# Altium schematic symbol library SCH - INTERFACE - LATTICE SIL9022A QFN-72.SCHLIB: 1 symbol
Pins are listed as number, name and electrical type; pins without a type are passive.

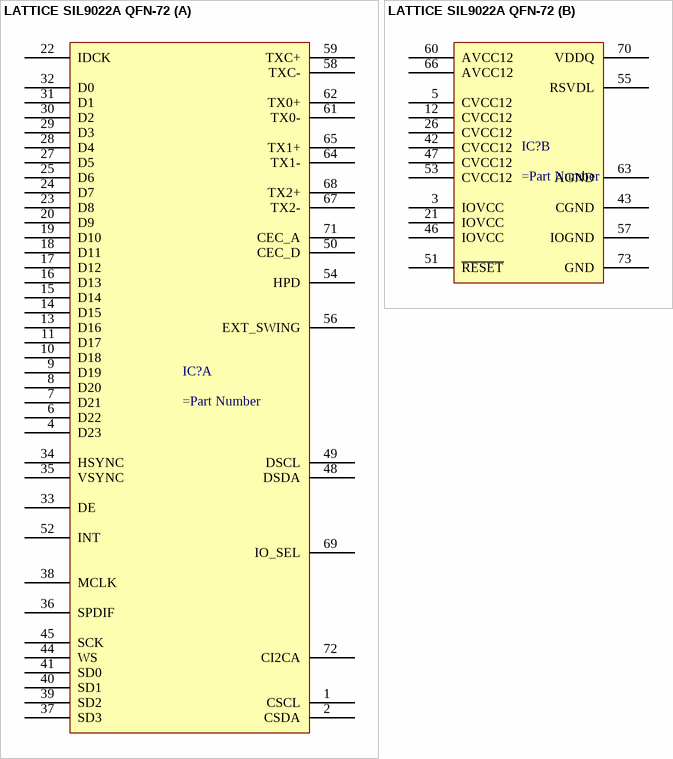
[diagram p0: symbol LATTICE SIL9022A QFN-72]

## LATTICE SIL9022A QFN-72
designator IC?
part A pins: 1 CSCL, 2 CSDA, 4 D23, 6 D22, 7 D21, 8 D20, 9 D19, 10 D18, 11 D17, 13 D16, 14 D15, 15 D14, 16 D13, 17 D12, 18 D11, 19 D10, 20 D9, 22 IDCK, 23 D8, 24 D7, 25 D6, 27 D5, 28 D4, 29 D3, 30 D2, 31 D1, 32 D0, 33 DE, 34 HSYNC, 35 VSYNC, 36 SPDIF, 37 SD3, 38 MCLK, 39 SD2, 40 SD1, 41 SD0, 44 WS, 45 SCK, 48 DSDA, 49 DSCL, 50 CEC_D, 52 INT, 54 HPD, 56 EXT_SWING, 58 TXC-, 59 TXC+, 61 TX0-, 62 TX0+, 64 TX1-, 65 TX1+, 67 TX2-, 68 TX2+, 69 IO_SEL, 71 CEC_A, 72 CI2CA
part B pins: 3 IOVCC, 5 CVCC12, 12 CVCC12, 21 IOVCC, 26 CVCC12, 42 CVCC12, 43 CGND, 46 IOVCC, 47 CVCC12, 51 ~{RESET}, 53 CVCC12, 55 RSVDL, 57 IOGND, 60 AVCC12, 63 AGND, 66 AVCC12, 70 VDDQ, 73 GND